# EAGLE library part DRV8838 (library wooddy)
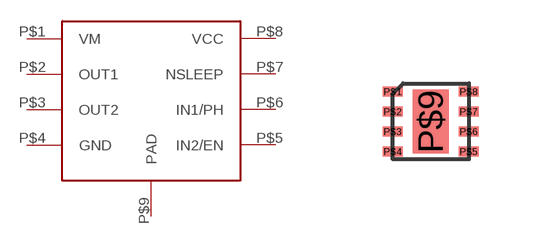
[diagram p5: symbol with the pads of WSON-08; footprint WSON-08]

Designator prefix -

## DRV8838  [WSON-08]
P$1  VM
P$2  OUT1
P$3  OUT2
P$4  GND
P$5  IN2/EN
P$6  IN1/PH
P$7  NSLEEP
P$8  VCC
P$9  PAD

## Footprint WSON-08 (pad centres in mm)
smd 0.5 x 0.25: P$1 -0.96,0.74; P$2 -0.96,0.24; P$3 -0.96,-0.26; P$4 -0.96,-0.76; P$5 0.94,-0.76; P$6 0.94,-0.26; P$7 0.94,0.24; P$8 0.94,0.74
smd 0.9 x 1.6: P$9 -0.01,-0.01